# Altium schematic symbol library Components.SchLib: 126 symbols
Pins are listed as number, name and electrical type; pins without a type are passive.

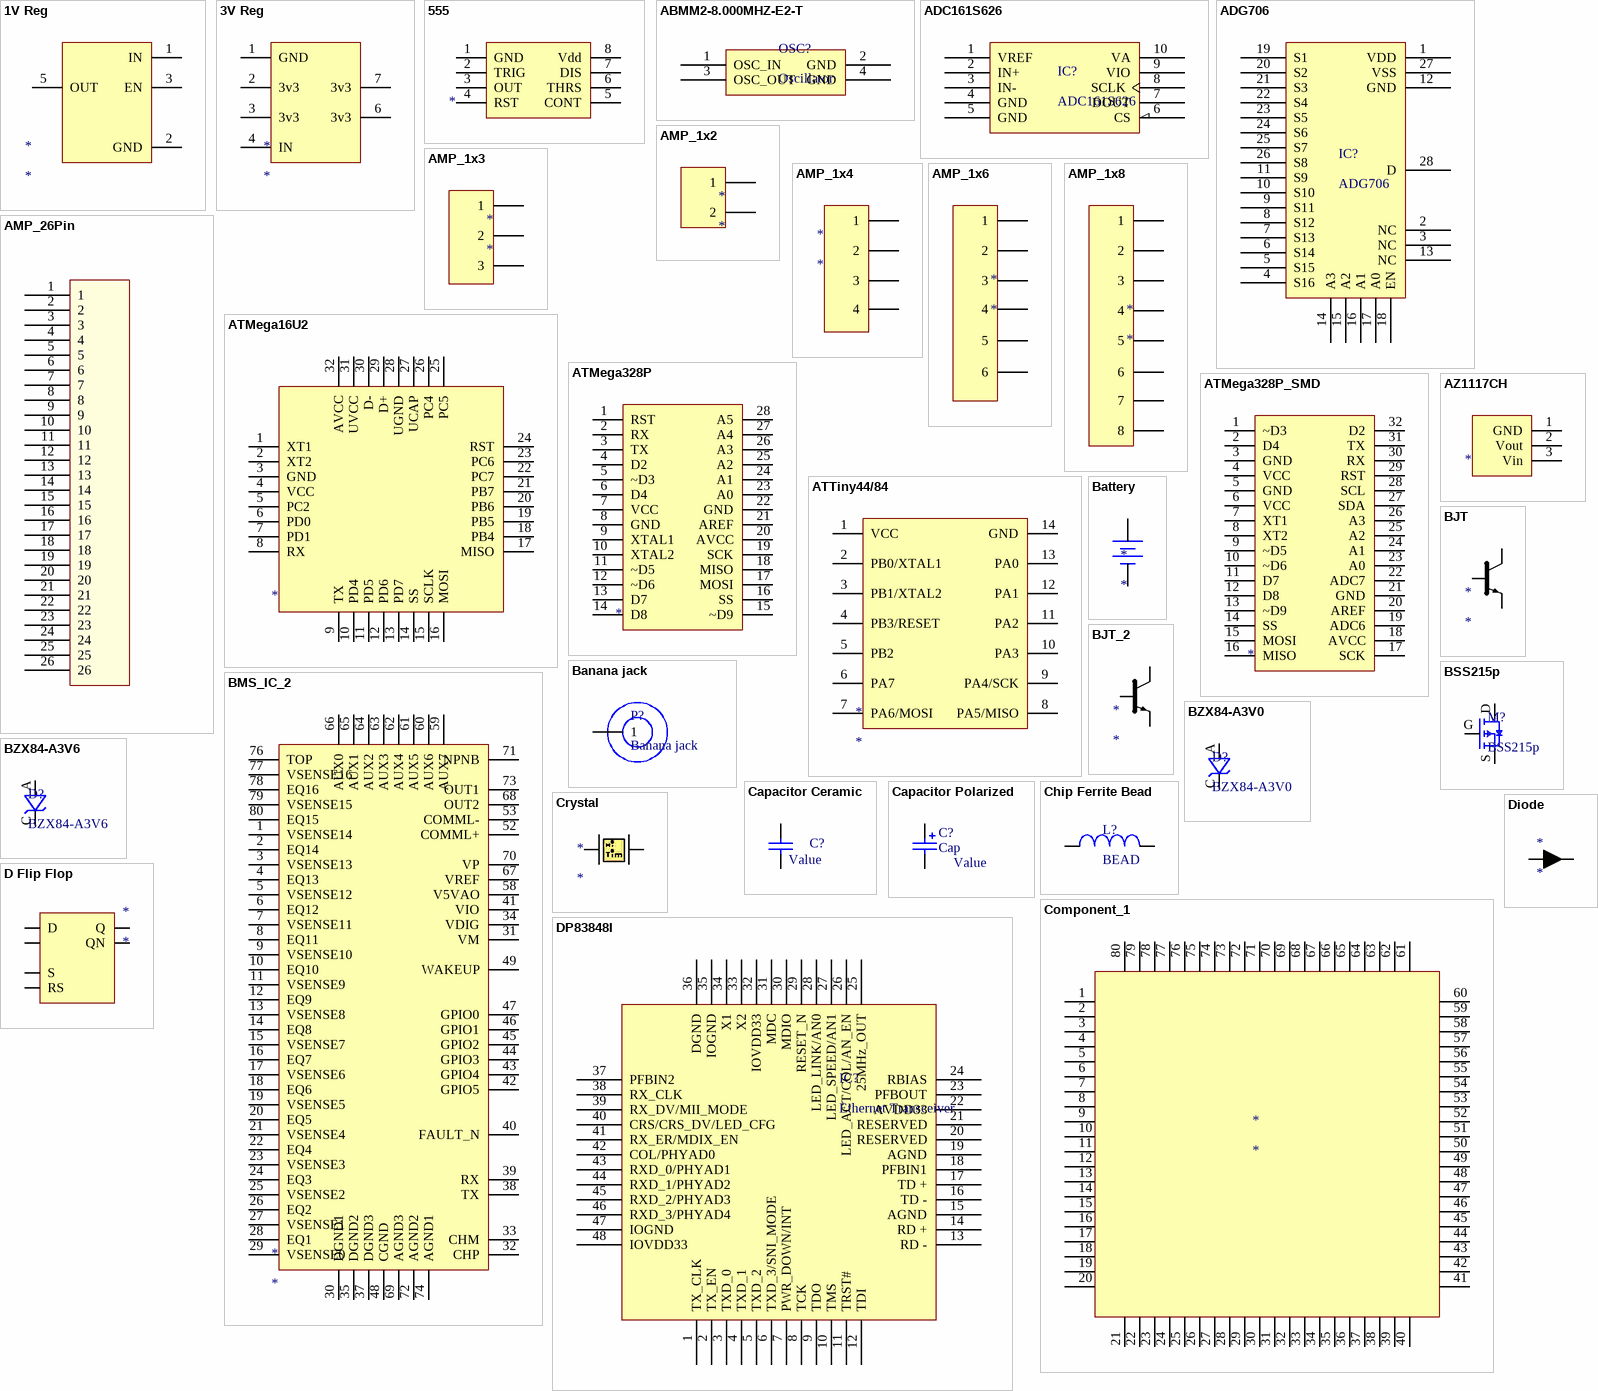
[diagram p0: symbols 1V Reg to DP83848I]

## 1V Reg
designator *
footprint SOT23-5Lead (SOT23, 5-Leads, Body 2.95x2.80mm, Pitch 0.95mm, IPC Medium Density)
pins: 1 IN, 2 GND, 3 EN, 5 OUT

## 3V Reg
designator *
footprint SOIC8
pins: 1 GND, 2 3v3, 3 3v3, 4 IN, 6 3v3, 7 3v3

## 555
designator *  (value not drawn)
footprint SOIC8
pins: 1 GND, 2 TRIG, 3 OUT, 4 RST, 5 CONT, 6 THRS, 7 DIS, 8 Vdd

## ABMM2-8.000MHZ-E2-T
designator OSC?, comment Oscillator
8MHz Oscillator
footprint ABMM2-OSC
pins: 1 OSC_IN, 2 GND, 3 OSC_OUT, 4 GND

## ADC161S626
designator IC?
TI ADC; 250ksps
footprint VSSOP-10 (DGS)
pins: 1 VREF, 2 IN+, 3 IN-, 4 GND, 5 GND, 6 CS, 7 DOUT, 8 SCLK, 9 VIO, 10 VA

## ADG706
designator IC?
16:1 Mux
footprint TSSOP-28
pins: 1 VDD, 2 NC, 3 NC, 4 S16, 5 S15, 6 S14, 7 S13, 8 S12, 9 S11, 10 S10, 11 S9, 12 GND, 13 NC, 14 A3, 15 A2, 16 A1, 17 A0, 18 EN, 19 S1, 20 S2, 21 S3, 22 S4, 23 S5, 24 S6, 25 S7, 26 S8, 27 VSS, 28 D

## AMP_1x2
designator *
pins: 1, 2

## AMP_1x3
designator *
footprint AMP_1x3
pins: 1, 2, 3

## AMP_1x4
designator *
footprint AMP_1x4
pins: 1, 2, 3, 4

## AMP_1x6
designator *
footprint AMP_1x6
pins: 1, 2, 3, 4, 5, 6

## AMP_1x8
designator *
pins: 1, 2, 3, 4, 5, 6, 7, 8

## AMP_26Pin
designator CON?, comment 26 Pin Conn  (value not drawn)
AMP SuperSeal 1.0 26 Pin
footprint AMP SuperSeal 1.0 26pin
pins: 1, 2, 3, 4, 5, 6, 7, 8, 9, 10, 11, 12, 13, 14, 15, 16, 17, 18, 19, 20, 21, 22, 23, 24, 25, 26

## ATMega16U2
designator *  (value not drawn)
footprint tqfp-32 (TQFP, 32-Leads, Body 7.00x7.00mm, Pitch 0.80mm, IPC Medium Density)
pins: 1 XT1, 2 XT2, 3 GND, 4 VCC, 5 PC2, 6 PD0, 7 PD1, 8 RX, 9 TX, 10 PD4, 11 PD5, 12 PD6, 13 PD7, 14 SS, 15 SCLK, 16 MOSI, 17 MISO, 18 PB4, 19 PB5, 20 PB6, 21 PB7, 22 PC7, 23 PC6, 24 RST, 25 PC5, 26 PC4, 27 UCAP, 28 UGND, 29 D+, 30 D-, 31 UVCC, 32 AVCC

## ATMega328P
designator *  (value not drawn)
footprint dip-28
pins: 1 RST, 2 RX, 3 TX, 4 D2, 5 ~D3, 6 D4, 7 VCC, 8 GND, 9 XTAL1, 10 XTAL2, 11 ~D5, 12 ~D6, 13 D7, 14 D8, 15 ~D9, 16 SS, 17 MOSI, 18 MISO, 19 SCK, 20 AVCC, 21 AREF, 22 GND, 23 A0, 24 A1, 25 A2, 26 A3, 27 A4, 28 A5

## ATMega328P_SMD
designator *  (value not drawn)
footprint tqfp-32 (TQFP, 32-Leads, Body 7.00x7.00mm, Pitch 0.80mm, IPC Medium Density)
pins: 1 ~D3, 2 D4, 3 GND, 4 VCC, 5 GND, 6 VCC, 7 XT1, 8 XT2, 9 ~D5, 10 ~D6, 11 D7, 12 D8, 13 ~D9, 14 SS, 15 MOSI, 16 MISO, 17 SCK, 18 AVCC, 19 ADC6, 20 AREF, 21 GND, 22 ADC7, 23 A0, 24 A1, 25 A2, 26 A3, 27 SDA, 28 SCL, 29 RST, 30 RX, 31 TX, 32 D2

## ATTiny44/84
designator *
footprint SOIC14 (SOIC, 14-Leads, Body 8.65x3.90mm, Pitch 1.27mm, IPC Medium Density)
pins: 1 VCC, 2 PB0/XTAL1, 3 PB1/XTAL2, 4 PB3/RESET, 5 PB2, 6 PA7, 7 PA6/MOSI, 8 PA5/MISO, 9 PA4/SCK, 10 PA3, 11 PA2, 12 PA1, 13 PA0, 14 GND

## AZ1117CH
designator *  (value not drawn)
footprint sot-223
pins: 1 GND, 2 Vout, 3 Vin

## Banana jack
designator P?
footprint BANANA JACK
pins: 1

## Battery
designator *
footprint Battery Holder

## BJT
designator *
footprint SOT23 (SOT23, 3-Leads, Body 2.90x2.45mm, Pitch 0.95mm, IPC Medium Density)
pins: 1, 2, 3

## BJT_2
designator *
footprint SOT323 (SOT23, 3-Leads, Body 2.00x2.10mm, Pitch 0.65mm, IPC Medium Density)
pins: 1 Emitter, 2 Base, 3 Collector

## BMS_IC_2
designator *
footprint TI BQ76PL455A
pins: 1 VSENSE14, 2 EQ14, 3 VSENSE13, 4 EQ13, 5 VSENSE12, 6 EQ12, 7 VSENSE11, 8 EQ11, 9 VSENSE10, 10 EQ10, 11 VSENSE9, 12 EQ9, 13 VSENSE8, 14 EQ8, 15 VSENSE7, 16 EQ7, 17 VSENSE6, 18 EQ6, 19 VSENSE5, 20 EQ5, 21 VSENSE4, 22 EQ4, 23 VSENSE3, 24 EQ3, 25 VSENSE2, 26 EQ2, 27 VSENSE1, 28 EQ1, 29 VSENSE0, 30 DGND1, 31 VM, 32 CHP, 33 CHM, 34 VDIG, 35 DGND2, 37 DGND3, 38 TX, 39 RX, 40 FAULT_N, 41 VIO, 42 GPIO5, 43 GPIO4, 44 GPIO3, 45 GPIO2, 46 GPIO1, 47 GPIO0, 48 CGND, 49 WAKEUP, 52 COMML+, 53 COMML-, 58 V5VAO, 59 AUX7, 60 AUX6, 61 AUX5, 62 AUX4, 63 AUX3, 64 AUX2, 65 AUX1, 66 AUX0, 67 VREF, 68 OUT2, 69 AGND3, 70 VP, 71 NPNB, 72 AGND2, 73 OUT1, 74 AGND1, 76 TOP, 77 VSENSE16, 78 EQ16, 79 VSENSE15, 80 EQ15

## BSS215p
designator M?
BSS215p P-Channel
footprint SOT-23-3; pin to pad D>3 G>1 S>2
pins: D, G, S

## BZX84-A3V0
designator D?
BZX84-A3V0 Zener Diode 3.0V
footprint SOT-23-3; pin to pad A>1 C>3
pins: A, C

## BZX84-A3V6
designator D?
BZX84-A3V6 Zener Diode 3.6V
footprint SOT-23-3; pin to pad A>1 C>3
pins: A, C

## Capacitor Ceramic
designator C?, comment Cap  (value not drawn)
Ceramic Chip Capacitor; Value: Value
footprint SMD0603
footprint SMD0805
footprint SMD1206
footprint SMD0603_cap
pins: 1, 2

## Capacitor Polarized
designator C?, comment Cap
Polarized Capacitor (Surface Mount); Value: Value
footprint SMD1206 Polarized
footprint CAP_radial_F (Aluminum Electrolytic Capacitor, Body 8.30x8.30x10.80mm, IPC Low Density)
footprint CAP_radial_G (Aluminum Electrolytic Capacitor, Body 10.30x10.30x10.80mm, IPC Low Density)
footprint cap_radial_d (Aluminum Electrolytic Capacitor, Body 7.00x6.60x6.10mm, IPC Low Density)
footprint cap_radial_b (Aluminum Electrolytic Capacitor, Body 4.30x4.30x5.80mm, IPC Low Density)
pins: 1, 2
1 alternate drawing of the same symbol

## Chip Ferrite Bead
designator L?, comment BEAD
Ferrite Bead; Part: BK1608HS601-TV
footprint SMD0603
pins: 1, 2

## Component_1
designator *
footprint TSQFP50P1400X1400X105-80N (TSQFP, 80-Leads, Body 12.00x12.00mm, Pitch 0.50mm, IPC Medium Density)
pins: 1, 2, 3, 4, 5, 6, 7, 8, 9, 10, 11, 12, 13, 14, 15, 16, 17, 18, 19, 20, 21, 22, 23, 24, 25, 26, 27, 28, 29, 30, 31, 32, 33, 34, 35, 36, 37, 38, 39, 40, 41, 42, 43, 44, 45, 46, 47, 48, 49, 50, 51, 52, 53, 54, 55, 56, 57, 58, 59, 60, 61, 62, 63, 64, 65, 66, 67, 68, 69, 70, 71, 72, 73, 74, 75, 76, 77, 78, 79, 80

## Crystal
designator *
footprint crystal_smd (16MHz)
pins: 1, 2

## D Flip Flop
designator *
pins: CLK, D, Q, QN, RS, S

## Diode
designator *
footprint DPAK23 (D-PAK, 3-Pads, Body 6.21x6.72mm (max), IPC Medium Density)
pins: 2 Cathode (-), 3 Anode (+)

## DP83848I
designator IC?, comment Ethernet Transceiver
Ethernet PHY IC; compatitble with DP83848C
footprint LQFP-48 (Specifically: PT (S-PQFP-G48))
pins: 1 TX_CLK, 2 TX_EN, 3 TXD_0, 4 TXD_1, 5 TXD_2, 6 TXD_3/SNI_MODE, 7 PWR_DOWN/INT, 8 TCK, 9 TDO, 10 TMS, 11 TRST#, 12 TDI, 13 RD -, 14 RD +, 15 AGND, 16 TD -, 17 TD +, 18 PFBIN1, 19 AGND, 20 RESERVED, 21 RESERVED, 22 AVDD33, 23 PFBOUT, 24 RBIAS, 25 25MHz_OUT, 26 LED_ACT/COL/AN_EN, 27 LED_SPEED/AN1, 28 LED_LINK/AN0, 29 RESET_N, 30 MDIO, 31 MDC, 32 IOVDD33, 33 X2, 34 X1, 35 IOGND, 36 DGND, 37 PFBIN2, 38 RX_CLK, 39 RX_DV/MII_MODE, 40 CRS/CRS_DV/LED_CFG, 41 RX_ER/MDIX_EN, 42 COL/PHYAD0, 43 RXD_0/PHYAD1, 44 RXD_1/PHYAD2, 45 RXD_2/PHYAD3, 46 RXD_3/PHYAD4, 47 IOGND, 48 IOVDD33

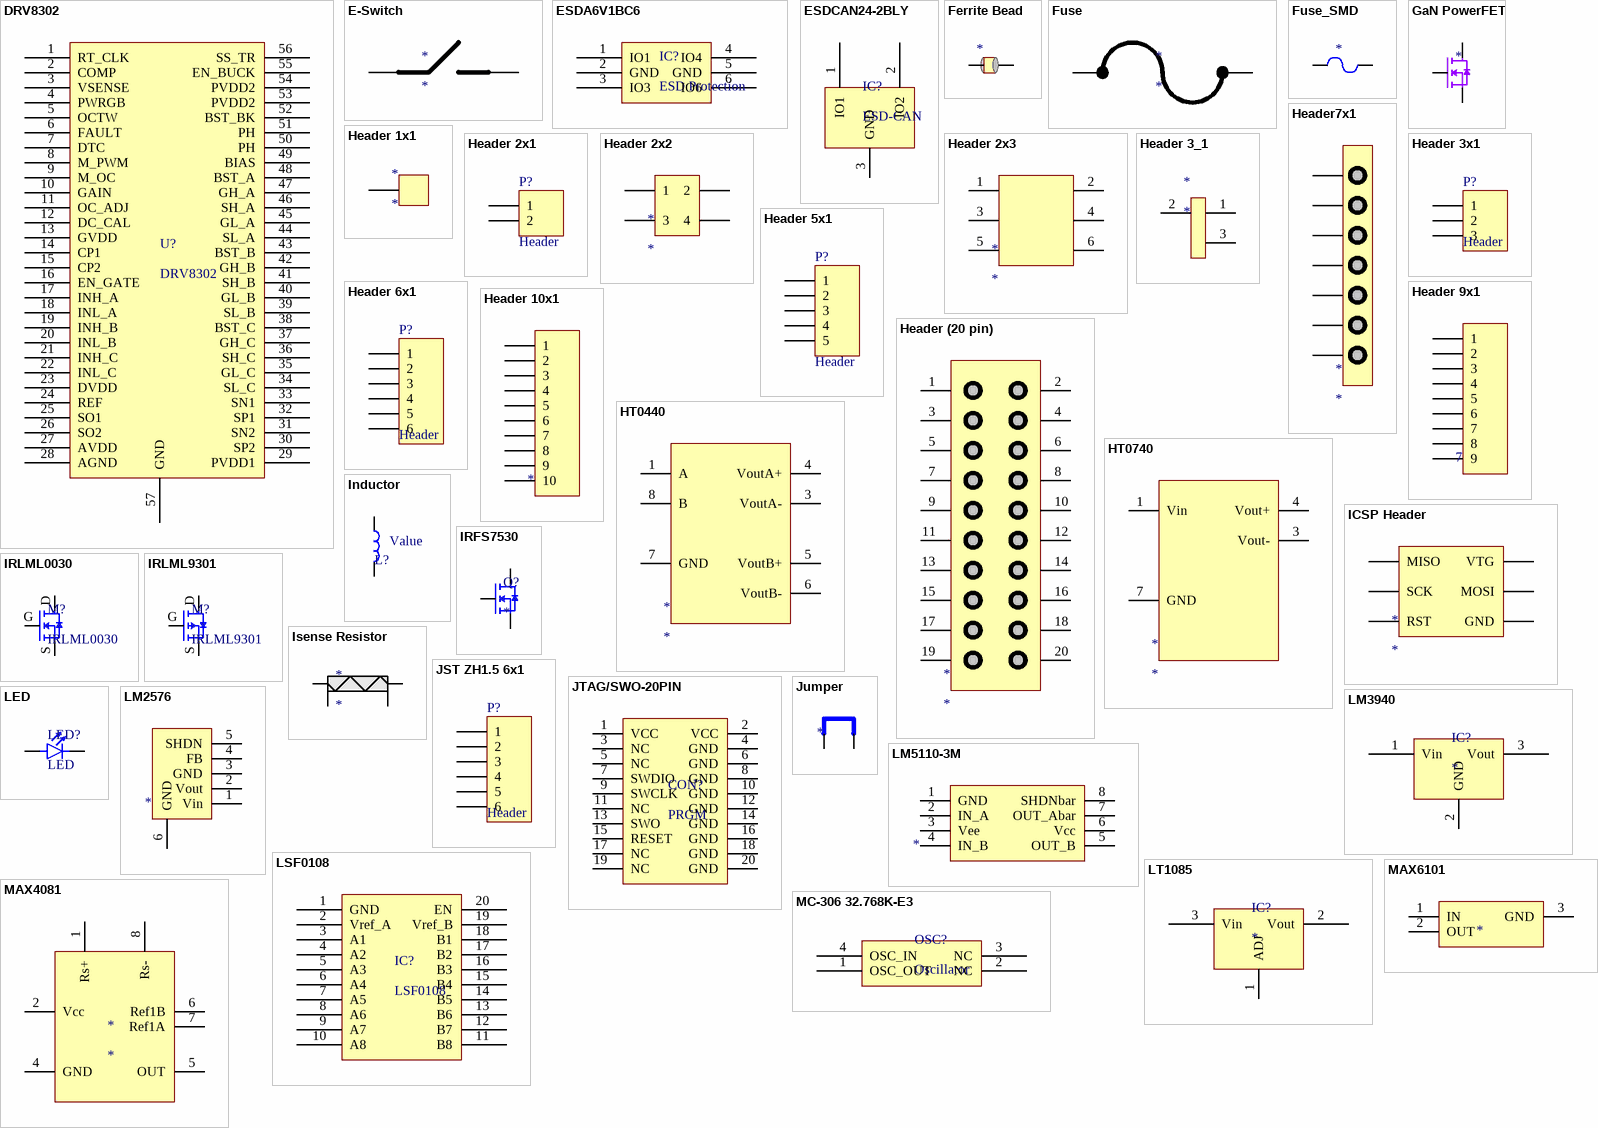
[diagram p1: symbols DRV8302 to MC-306 32.768K-E3]

## DRV8302
designator U?
pins: 1 RT_CLK, 2 COMP, 3 VSENSE, 4 PWRGB, 5 OCTW, 6 FAULT, 7 DTC, 8 M_PWM, 9 M_OC, 10 GAIN, 11 OC_ADJ, 12 DC_CAL, 13 GVDD, 14 CP1, 15 CP2, 16 EN_GATE, 17 INH_A, 18 INL_A, 19 INH_B, 20 INL_B, 21 INH_C, 22 INL_C, 23 DVDD, 24 REF, 25 SO1, 26 SO2, 27 AVDD, 28 AGND, 29 PVDD1, 30 SP2, 31 SN2, 32 SP1, 33 SN1, 34 SL_C, 35 GL_C, 36 SH_C, 37 GH_C, 38 BST_C, 39 SL_B, 40 GL_B, 41 SH_B, 42 GH_B, 43 BST_B, 44 SL_A, 45 GL_A, 46 SH_A, 47 GH_A, 48 BST_A, 49 BIAS, 50 PH, 51 PH, 52 BST_BK, 53 PVDD2, 54 PVDD2, 55 EN_BUCK, 56 SS_TR, 57 GND

## E-Switch
designator *
pins: 1, 2

## ESDA6V1BC6
designator IC?, comment ESD Protection
4 channel bi directional ESD protection
footprint SOT23-6L
pins: 1 IO1, 2 GND, 3 IO3, 4 IO4, 5 GND, 6 IO6

## ESDCAN24-2BLY
designator IC?, comment ESD-CAN
footprint SOT-23-3
pins: 1 IO1, 2 IO2, 3 GND

## Ferrite Bead
designator *  (value not drawn)
footprint smd0603
pins: 1, 2

## Fuse
designator *
footprint Fuse Holder
footprint SMD1206
pins: 1, 2

## Fuse_SMD
designator *  (value not drawn)
footprint smd1206
pins: 1, 2

## GaN PowerFET
designator *  (value not drawn)
footprint GaN Bumped Die (4-Lead)
pins: D, G, S

## Header7x1
designator *
footprint Header7x1
pins: 1, 2, 3, 4, 5, 6, 7

## Header 1x1
designator *
footprint Header 1x1 (PinHeader 1x1 TH Pitch 2.54mm)
pins: 1

## Header 2x1
designator P?, comment Header
Header, 2-Pin
footprint Header 2x1
pins: 1, 2

## Header 2x2
designator *
footprint Header 2x2
pins: 1, 2, 3, 4

## Header 2x3
designator *
footprint Header 2x3
pins: 1 MISO, 2 VCC, 3 SCK, 4 MOSI, 5 RST, 6 GND

## Header 3_1
designator *
footprint HEADER 3X1
pins: 1, 2, 3

## Header 3x1
designator P?, comment Header
Header, 2-Pin
footprint HEADER 3X1
pins: 1, 2, 3

## Header 5x1
designator P?, comment Header
Header, 5-Pin
footprint Header 5x1
pins: 1, 2, 3, 4, 5

## Header 6x1
designator P?, comment Header
Header, 5-Pin
footprint HEADER 6X1 (PinHeader 1x6 TH Pitch 2.54mm)
pins: 1, 2, 3, 4, 5, 6

## Header 9x1
designator 7  (value not drawn)
footprint header 9x1 (PinHeader 1x9 TH Pitch 2.54mm)
pins: 1, 2, 3, 4, 5, 6, 7, 8, 9

## Header 10x1
designator *  (value not drawn)
footprint header 10x1 (PinHeader 1x10 TH Pitch 2.54mm)
pins: 1, 2, 3, 4, 5, 6, 7, 8, 9, 10

## Header (20 pin)
designator *
footprint Header10x2
pins: 1, 2, 3, 4, 5, 6, 7, 8, 9, 10, 11, 12, 13, 14, 15, 16, 17, 18, 19, 20

## HT0440
designator *
footprint SOIC-8
pins: 1 A, 3 VoutA-, 4 VoutA+, 5 VoutB+, 6 VoutB-, 7 GND, 8 B

## HT0740
designator *
footprint SOIC8
pins: 1 Vin, 3 Vout-, 4 Vout+, 7 GND

## ICSP Header
designator *
footprint Header 2x3
pins: 1 MISO, 2 VTG, 3 SCK, 4 MOSI, 5 RST, 6 GND

## Inductor
designator L?
Inductor; Code_IEC: 1005; Published: 8-Jun-2000; LatestRevisionDate: 29-May-2009; LatestRevisionNote: IPC-7351 Footprint Added.; PackageReference: 0402-A; Publisher: Altium Limited; PackageDescription: Chip Inductor; Code_JEITA: 0402; Value: Value
footprint Nonstandard_10uH
footprint Nonstandard_68uH
footprint SMD0805
pins: 1 Source, 2 Source

## IRFS7530
designator Q?
IRFS7530 Power MOSFET
footprint D2PAK-7
pins: D, G, S

## IRLML0030
designator M?
IRLML0030 N-Channel
footprint SOT-23-3; pin to pad D>3 G>1 S>2
pins: D, G, S

## IRLML9301
designator M?
IRLML9301 P-Channel
footprint SOT-23-3; pin to pad D>3 G>1 S>2
pins: D, G, S

## Isense Resistor
designator *
footprint SenseResistor (Vishay-Dale Low-Ohm Resistor)
pins: 1 IN, 2 OUT, 3 senseHI, 4 senseLOW

## JST ZH1.5 6x1
designator P?, comment Header
JST ZH-1.5 Header 6-Pin
footprint JST ZH1.5 6X1
pins: 1, 2, 3, 4, 5, 6

## JTAG/SWO-20PIN
designator CON?, comment PRGM
footprint JTAG/SWO-20PIN
pins: 1 VCC, 2 VCC, 3 NC, 4 GND, 5 NC, 6 GND, 7 SWDIO, 8 GND, 9 SWCLK, 10 GND, 11 NC, 12 GND, 13 SWO, 14 GND, 15 RESET, 16 GND, 17 NC, 18 GND, 19 NC, 20 GND

## Jumper
designator *  (value not drawn)
footprint jumper
pins: 1, 2

## LED
designator LED?
footprint SMD0603 POLARIZED
footprint SMD0805_Polarized
pins: 1 Anode (+), 2 Cathode (-)

## LM2576
designator *  (value not drawn)
footprint to263-5 (D2-PAK, 6-Pads, Body 7.93x8.63mm (max), IPC Medium Density)
pins: 1 Vin, 2 Vout, 3 GND, 4 FB, 5 SHDN, 6 GND

## LM3940
designator IC?
3.3V 1A LDO
footprint LM78XX (LM78XX Voltage Reg)
footprint SOT-223
pins: 1 Vin, 2 GND, 3 Vout

## LM5110-3M
designator *  (value not drawn)
footprint soic8
pins: 1 GND, 2 IN_A, 3 Vee, 4 IN_B, 5 OUT_B, 6 Vcc, 7 OUT_Abar, 8 SHDNbar

## LSF0108
designator IC?
8 bit 5V to 3.3V level shifter
footprint TSSOP-20 (Specifically: PW (R-PDSO-G20))
pins: 1 GND, 2 Vref_A, 3 A1, 4 A2, 5 A3, 6 A4, 7 A5, 8 A6, 9 A7, 10 A8, 11 B8, 12 B7, 13 B6, 14 B5, 15 B4, 16 B3, 17 B2, 18 B1, 19 Vref_B, 20 EN

## LT1085
designator IC?
3A DC/DC Converter (SM)
footprint LM78XX (LM78XX Voltage Reg)
footprint DPAK - 3pin
pins: 1 ADJ, 2 Vout, 3 Vin

## MAX4081
designator *
footprint SOIC8
pins: 1 Rs+, 2 Vcc, 4 GND, 5 OUT, 6 Ref1B, 7 Ref1A, 8 Rs-

## MAX6101
designator *  (value not drawn)
footprint sot23 (SOT23, 3-Leads, Body 2.90x2.45mm, Pitch 0.95mm, IPC Medium Density)
pins: 1 IN, 2 OUT, 3 GND

## MC-306 32.768K-E3
designator OSC?, comment Oscillator
32.7680kHz Oscillator
footprint MC-306-OSC
pins: 1 OSC_OUT, 2 NC, 3 NC, 4 OSC_IN

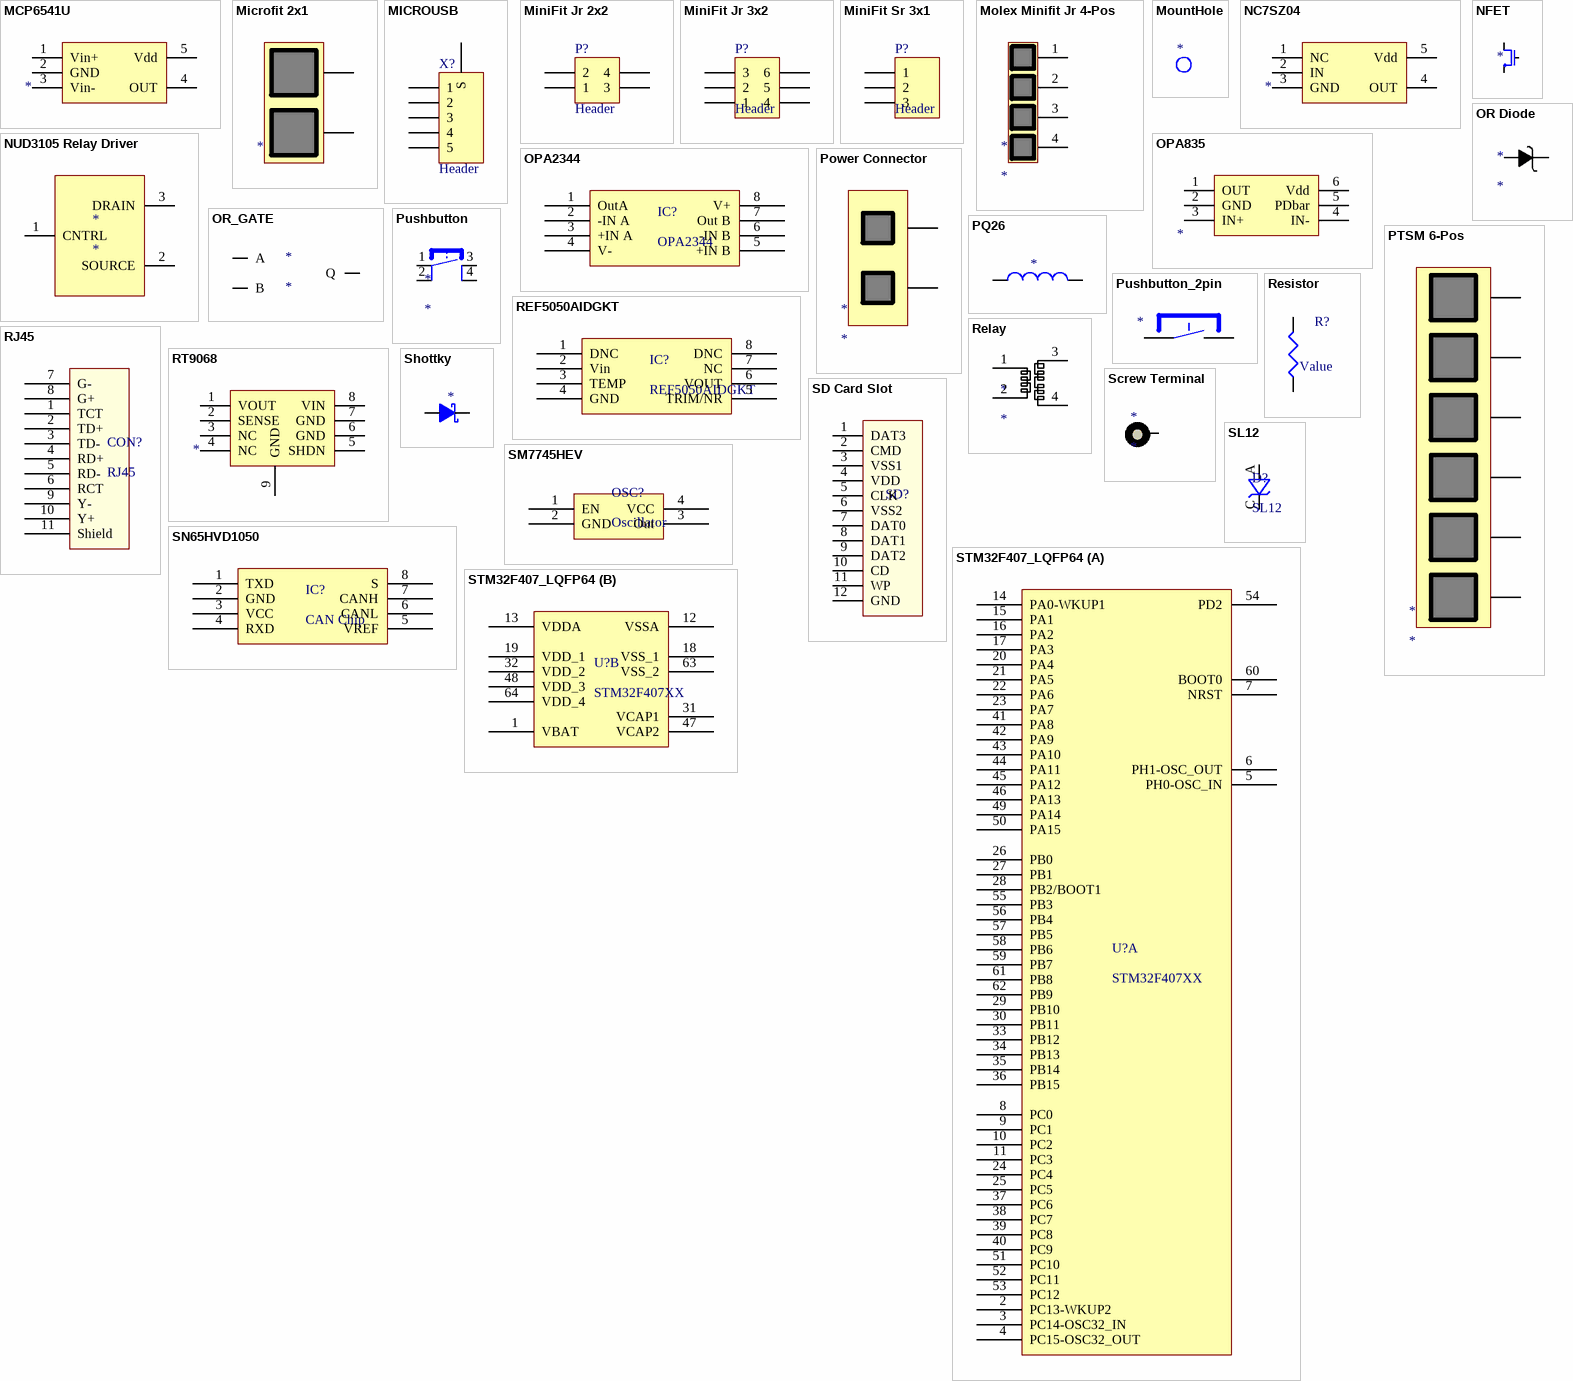
[diagram p2: symbols MCP6541U to STM32F407_LQFP64]

## MCP6541U
designator *  (value not drawn)
footprint SOT23-5Lead (SOT23, 5-Leads, Body 2.95x2.80mm, Pitch 0.95mm, IPC Medium Density)
pins: 1 Vin+, 2 GND, 3 Vin-, 4 OUT, 5 Vdd

## Microfit 2x1
designator *  (value not drawn)
footprint Microfit 2x1
pins: 1, 2

## MICROUSB
designator X?, comment Header
Micro USB
footprint MICRO USB
footprint microusb_2
pins: 1, 2, 3, 4, 5, S

## MiniFit Jr 2x2
designator P?, comment Header
Header, 2x2
footprint MINIFITJR 2X2
pins: 1, 2, 3, 4

## MiniFit Jr 3x2
designator P?, comment Header
Header, 3x2
footprint MINIFITJR 3X2
pins: 1, 2, 3, 4, 5, 6

## MiniFit Sr 3x1
designator P?, comment Header
Header, 2-Pin
footprint MINIFITSR 3X1
pins: 1, 2, 3

## Molex Minifit Jr 4-Pos
designator *
footprint MINIFITJR 2X2
pins: 1, 2, 3, 4

## MountHole
designator *  (value not drawn)
footprint MountHole_M3

## NC7SZ04
designator *  (value not drawn)
footprint SOT23-5Lead (SOT23, 5-Leads, Body 2.95x2.80mm, Pitch 0.95mm, IPC Medium Density)
pins: 1 NC, 2 IN, 3 GND, 4 OUT, 5 Vdd

## NFET
designator *  (value not drawn)
footprint sot23 (SOT23, 3-Leads, Body 2.90x2.45mm, Pitch 0.95mm, IPC Medium Density)
pins: 1 G, 2 S, 3 D

## NUD3105 Relay Driver
designator *
footprint SOT23 (SOT23, 3-Leads, Body 2.90x2.45mm, Pitch 0.95mm, IPC Medium Density)
pins: 1 CNTRL, 2 SOURCE, 3 DRAIN

## OPA835
designator *  (value not drawn)
footprint SOT23-6L (ESDA6V1BC6)
pins: 1 OUT, 2 GND, 3 IN+, 4 IN-, 5 PDbar, 6 Vdd

## OPA2344
designator IC?
Rail to rail opamp
footprint SOIC-8
pins: 1 OutA, 2 -IN A, 3 +IN A, 4 V-, 5 +IN B, 6 -IN B, 7 Out B, 8 V+

## OR Diode
designator *
footprint POWERDI 5
pins: 1, 2

## OR_GATE
designator *
pins: A, B, Q

## Power Connector
designator *
pins: 1, 2

## PQ26
designator *  (value not drawn)
footprint PQ26
pins: 1, 2

## PTSM 6-Pos
designator *
footprint PTSM 6-Pos
pins: 1, 2, 3, 4, 5, 6

## Pushbutton
designator *
footprint Pushbutton
footprint pushbutton_smd (6.2mm)
pins: 1, 2, 3, 4

## Pushbutton_2pin
designator *  (value not drawn)
pins: 1, 2

## REF5050AIDGKT
designator IC?
5V Precision Reference Voltage
footprint VSSOP-8 (DGK)
pins: 1 DNC, 2 Vin, 3 TEMP, 4 GND, 5 TRIM/NR, 6 VOUT, 7 NC, 8 DNC

## Relay
designator *
footprint JT-N Relay
pins: 1 coil1, 2 coil2, 3 OUT1, 4 OUT2

## Resistor
designator R?, comment Res  (value not drawn)
Resistor; Value: Value
footprint SMD0603
footprint SMD0805
footprint SMD1206
pins: 1, 2

## RJ45
designator CON?
RJ45 Ethernet Connector with built in magnetics
footprint RJ45; pin to pad 11>S
pins: 1 TCT, 2 TD+, 3 TD-, 4 RD+, 5 RD-, 6 RCT, 7 G-, 8 G+, 9 Y-, 10 Y+, 11 Shield

## RT9068
designator *  (value not drawn)
footprint soic-8_pad
pins: 1 VOUT, 2 SENSE, 3 NC, 4 NC, 5 SHDN, 6 GND, 7 GND, 8 VIN, 9 GND

## Screw Terminal
designator *
footprint Screw Terminal
pins: 1 S

## SD Card Slot
designator SD?  (value not drawn)
SD Card Connector (Amphenol)
footprint SDCARD-AMP (Amphenol 101003136802); pin to pad 12>GND
pins: 1 DAT3, 2 CMD, 3 VSS1, 4 VDD, 5 CLK, 6 VSS2, 7 DAT0, 8 DAT1, 9 DAT2, 10 CD, 11 WP, 12 GND

## Shottky
designator *  (value not drawn)
footprint sod-128 (SODFL, 2-Leads, Body 2.50x4.70mm, IPC Medium Density)
pins: A 1, K 2

## SL12
designator D?
SL12 Schottky Diode
footprint DO-214AC; pin to pad A>1 C>2
pins: A, C

## SM7745HEV
designator OSC?, comment Oscillator
50Mhz Oscillator
footprint SM77H-OSC
pins: 1 EN, 2 GND, 3 Out, 4 VCC

## SN65HVD1050
designator IC?, comment CAN Chip
footprint SOIC-8
pins: 1 TXD, 2 GND, 3 VCC, 4 RXD, 5 VREF, 6 CANL, 7 CANH, 8 S

## STM32F407_LQFP64
designator U?, comment STM32F407XX
part A pins: 2 PC13-WKUP2, 3 PC14-OSC32_IN, 4 PC15-OSC32_OUT, 5 PH0-OSC_IN, 6 PH1-OSC_OUT, 7 NRST, 8 PC0, 9 PC1, 10 PC2, 11 PC3, 14 PA0-WKUP1, 15 PA1, 16 PA2, 17 PA3, 20 PA4, 21 PA5, 22 PA6, 23 PA7, 24 PC4, 25 PC5, 26 PB0, 27 PB1, 28 PB2/BOOT1, 29 PB10, 30 PB11, 33 PB12, 34 PB13, 35 PB14, 36 PB15, 37 PC6, 38 PC7, 39 PC8, 40 PC9, 41 PA8, 42 PA9, 43 PA10, 44 PA11, 45 PA12, 46 PA13, 49 PA14, 50 PA15, 51 PC10, 52 PC11, 53 PC12, 54 PD2, 55 PB3, 56 PB4, 57 PB5, 58 PB6, 59 PB7, 60 BOOT0, 61 PB8, 62 PB9
part B pins: 1 VBAT, 12 VSSA, 13 VDDA, 18 VSS_1, 19 VDD_1, 31 VCAP1, 32 VDD_2, 47 VCAP2, 48 VDD_3, 63 VSS_2, 64 VDD_4

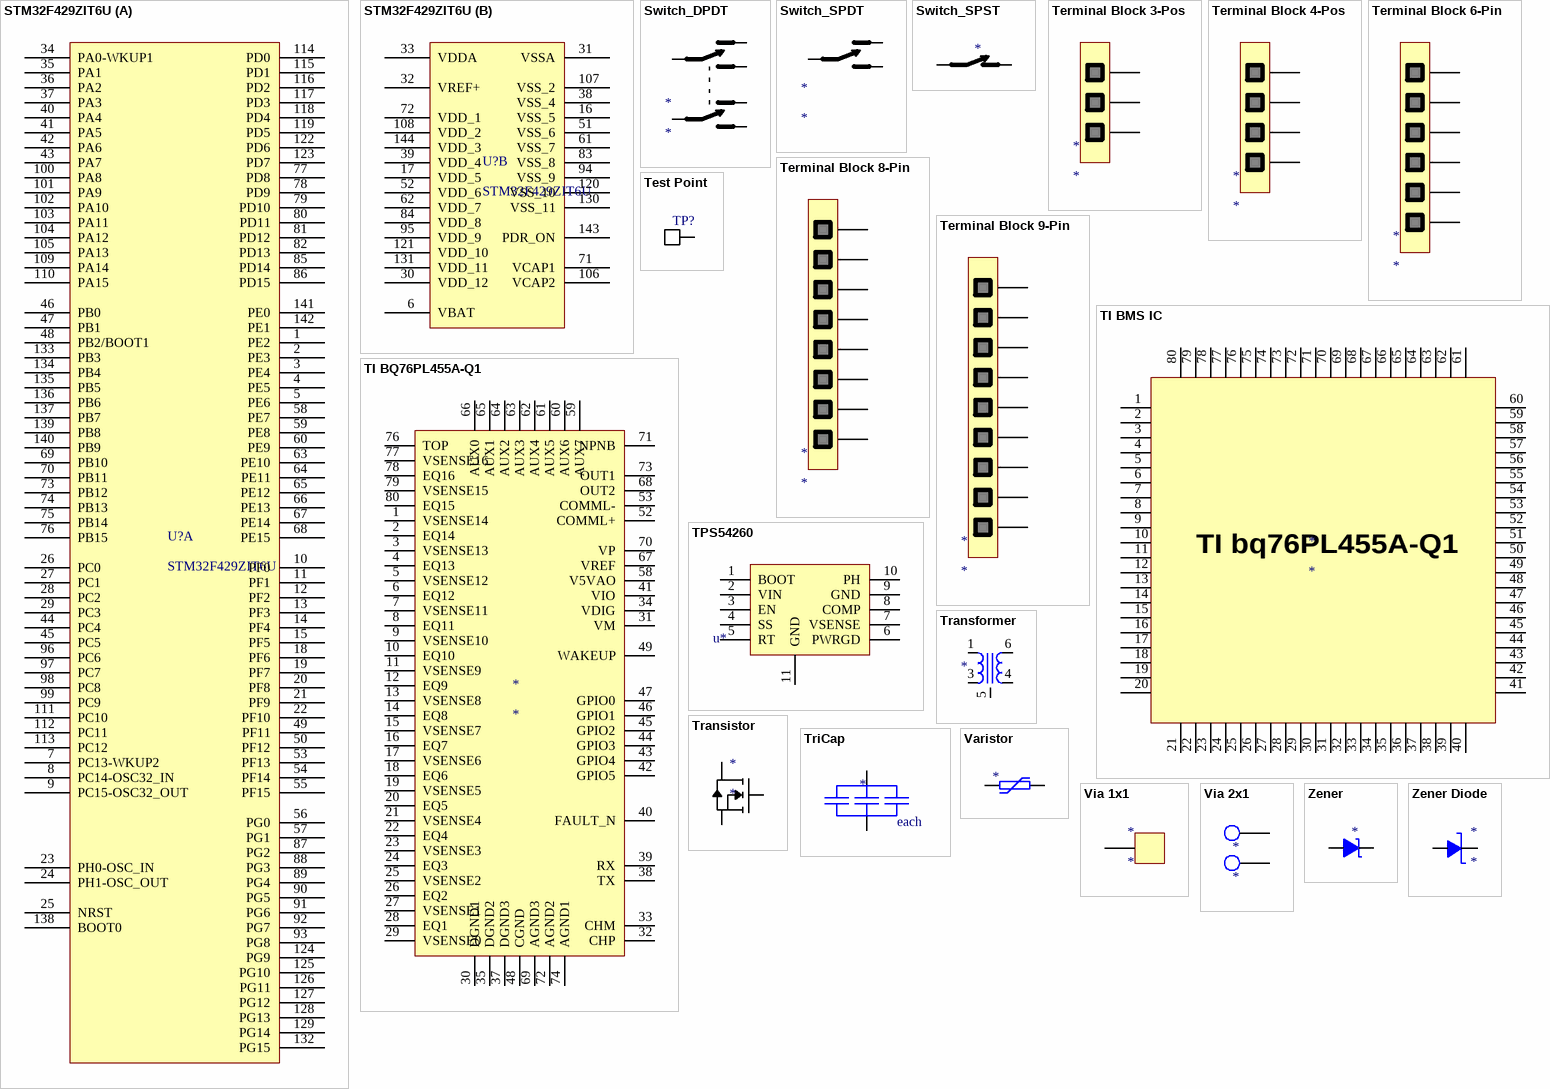
[diagram p3: symbols STM32F429ZIT6U to Zener Diode]

## STM32F429ZIT6U
designator U?
footprint LQPF144
part A pins: 1 PE2, 2 PE3, 3 PE4, 4 PE5, 5 PE6, 7 PC13-WKUP2, 8 PC14-OSC32_IN, 9 PC15-OSC32_OUT, 10 PF0, 11 PF1, 12 PF2, 13 PF3, 14 PF4, 15 PF5, 18 PF6, 19 PF7, 20 PF8, 21 PF9, 22 PF10, 23 PH0-OSC_IN, 24 PH1-OSC_OUT, 25 NRST, 26 PC0, 27 PC1, 28 PC2, 29 PC3, 34 PA0-WKUP1, 35 PA1, 36 PA2, 37 PA3, 40 PA4, 41 PA5, 42 PA6, 43 PA7, 44 PC4, 45 PC5, 46 PB0, 47 PB1, 48 PB2/BOOT1, 49 PF11, 50 PF12, 53 PF13, 54 PF14, 55 PF15, 56 PG0, 57 PG1, 58 PE7, 59 PE8, 60 PE9, 63 PE10, 64 PE11, 65 PE12, 66 PE13, 67 PE14, 68 PE15, 69 PB10, 70 PB11, 73 PB12, 74 PB13, 75 PB14, 76 PB15, 77 PD8, 78 PD9, 79 PD10, 80 PD11, 81 PD12, 82 PD13, 85 PD14, 86 PD15, 87 PG2, 88 PG3, 89 PG4, 90 PG5, 91 PG6, 92 PG7, 93 PG8, 96 PC6, 97 PC7, 98 PC8, 99 PC9, 100 PA8, 101 PA9, 102 PA10, 103 PA11, 104 PA12, 105 PA13, 109 PA14, 110 PA15, 111 PC10, 112 PC11, 113 PC12, 114 PD0, 115 PD1, 116 PD2, 117 PD3, 118 PD4, 119 PD5, 122 PD6, 123 PD7, 124 PG9, 125 PG10, 126 PG11, 127 PG12, 128 PG13, 129 PG14, 132 PG15, 133 PB3, 134 PB4, 135 PB5, 136 PB6, 137 PB7, 138 BOOT0, 139 PB8, 140 PB9, 141 PE0, 142 PE1
part B pins: 6 VBAT, 16 VSS_5, 17 VDD_5, 30 VDD_12, 31 VSSA, 32 VREF+, 33 VDDA, 38 VSS_4, 39 VDD_4, 51 VSS_6, 52 VDD_6, 61 VSS_7, 62 VDD_7, 71 VCAP1, 72 VDD_1, 83 VSS_8, 84 VDD_8, 94 VSS_9, 95 VDD_9, 106 VCAP2, 107 VSS_2, 108 VDD_2, 120 VSS_10, 121 VDD_10, 130 VSS_11, 131 VDD_11, 143 PDR_ON, 144 VDD_3

## Switch_DPDT
designator *
footprint Switch_DPDT
pins: 1 out_1-1, 2 in_1, 3 out_1-2, 4 out_2-1, 5 in_2, 6 out_2-2

## Switch_SPDT
designator *
footprint Switch_SPDT
pins: 1, 2, 3

## Switch_SPST
designator *  (value not drawn)
footprint L101011MS02
pins: 1, 2

## Terminal Block 3-Pos
designator *
footprint PTSM 3-Pos
pins: 1, 2, 3

## Terminal Block 4-Pos
designator *
footprint PTSM 4-Pos
pins: 1, 2, 3, 4

## Terminal Block 6-Pin
designator *
footprint PTSM 6-Pos
pins: 1, 2, 3, 4, 5, 6

## Terminal Block 8-Pin
designator *
footprint Terminal Block 8-Pos
pins: 1, 2, 3, 4, 5, 6, 7, 8

## Terminal Block 9-Pin
designator *
footprint Terminal Block 9-Pos
pins: 1, 2, 3, 4, 5, 6, 7, 8, 9

## Test Point
designator TP?  (value not drawn)
Supplier 1: Digi-Key; Supplier Part Number 1: 5019KCT-ND
footprint Test Point
pins: 1

## TI BMS IC
designator *
footprint TSQFP50P1400X1400X105-80N (TSQFP, 80-Leads, Body 12.00x12.00mm, Pitch 0.50mm, IPC Medium Density)
pins: 1, 2, 3, 4, 5, 6, 7, 8, 9, 10, 11, 12, 13, 14, 15, 16, 17, 18, 19, 20, 21, 22, 23, 24, 25, 26, 27, 28, 29, 30, 31, 32, 33, 34, 35, 36, 37, 38, 39, 40, 41, 42, 43, 44, 45, 46, 47, 48, 49, 50, 51, 52, 53, 54, 55, 56, 57, 58, 59, 60, 61, 62, 63, 64, 65, 66, 67, 68, 69, 70, 71, 72, 73, 74, 75, 76, 77, 78, 79, 80
text: TI bq76PL455A-Q1

## TI BQ76PL455A-Q1
designator *
footprint TQFP-80
pins: 1 VSENSE14, 2 EQ14, 3 VSENSE13, 4 EQ13, 5 VSENSE12, 6 EQ12, 7 VSENSE11, 8 EQ11, 9 VSENSE10, 10 EQ10, 11 VSENSE9, 12 EQ9, 13 VSENSE8, 14 EQ8, 15 VSENSE7, 16 EQ7, 17 VSENSE6, 18 EQ6, 19 VSENSE5, 20 EQ5, 21 VSENSE4, 22 EQ4, 23 VSENSE3, 24 EQ3, 25 VSENSE2, 26 EQ2, 27 VSENSE1, 28 EQ1, 29 VSENSE0, 30 DGND1, 31 VM, 32 CHP, 33 CHM, 34 VDIG, 35 DGND2, 37 DGND3, 38 TX, 39 RX, 40 FAULT_N, 41 VIO, 42 GPIO5, 43 GPIO4, 44 GPIO3, 45 GPIO2, 46 GPIO1, 47 GPIO0, 48 CGND, 49 WAKEUP, 52 COMML+, 53 COMML-, 58 V5VAO, 59 AUX7, 60 AUX6, 61 AUX5, 62 AUX4, 63 AUX3, 64 AUX2, 65 AUX1, 66 AUX0, 67 VREF, 68 OUT2, 69 AGND3, 70 VP, 71 NPNB, 72 AGND2, 73 OUT1, 74 AGND1, 76 TOP, 77 VSENSE16, 78 EQ16, 79 VSENSE15, 80 EQ15

## TPS54260
designator u*  (value not drawn)
footprint MSSOP-10 (TSSOP, 10-Leads, Body 3.00x3.00mm, Pitch 0.50mm, Thermal Pad 1.88x1.57mm, IPC Medium Density)
pins: 1 BOOT, 2 VIN, 3 EN, 4 SS, 5 RT, 6 PWRGD, 7 VSENSE, 8 COMP, 9 GND, 10 PH, 11 GND

## Transformer
designator *  (value not drawn)
footprint P1408
pins: 1 Source, 3 Source, 4 A, 5 A, 6 A

## Transistor
designator *
footprint Transistor 3-Lead (SOT23, 3-Leads, Body 2.90x2.45mm, Pitch 0.95mm, IPC Medium Density)
footprint SOT23 (SOT23, 3-Leads, Body 2.90x2.45mm, Pitch 0.95mm, IPC Medium Density)
pins: 1 G, 2 S, 3 D

## TriCap
designator *  (value not drawn)
footprint tricap_0603
footprint tricap_0805
pins: 1, 2
text: each

## Varistor
designator *  (value not drawn)
footprint smd0603
pins: 1, 2

## Via 1x1
designator *
footprint Via 1x1
pins: 1

## Via 2x1
designator *
footprint Via 2x1
pins: 1, 2

## Zener
designator *  (value not drawn)
footprint SOD-323F
pins: A, K 2

## Zener Diode
designator *
footprint TVS Diode (Chip Diode, 2-Leads, Body 5.24x2.10mm, IPC Medium Density)
footprint ZenerCell (SODFL, 2-Leads, Body 1.25x2.50mm, IPC Medium Density)
footprint POWERDI 5
pins: 1, 2